# Altium footprint library Driver.PcbLib: 20 footprints (part 1 of 2)
Each footprint in its own frame and in the unit in brackets; x right, y up, seen from the top. Pads: shape width x height; smd on the part's side, far side on the other; paste and mask are expansions set on the pad; w line width, h text height; cw(c..) or ccw(c..) is an arc to the next point about the centre after c.
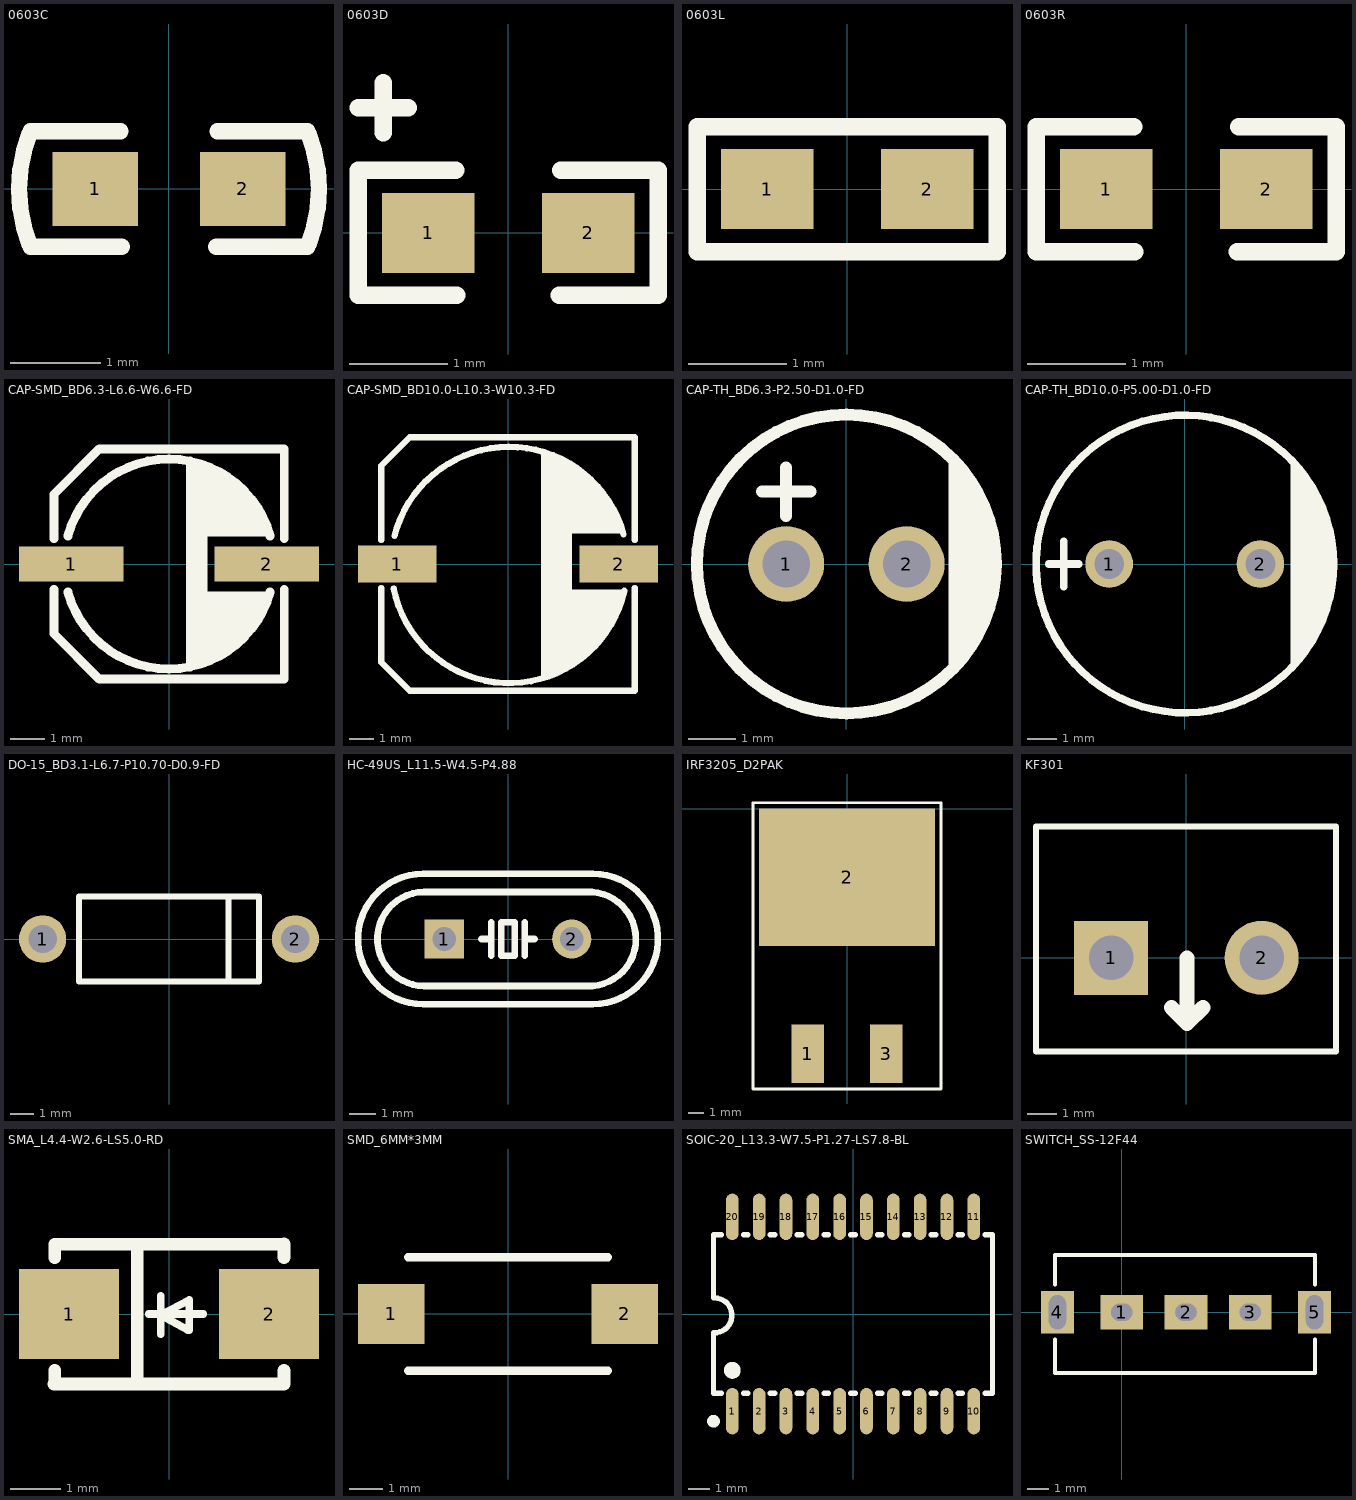
[diagram p0: the footprints below, top view; thin cyan lines are the x and y axes]

## 0603C [mil]
pads (2):
  rect 37x32 smd: 1(-32,0) 2(32,0)
Top Overlay:
  lines w7: -60.27,-24.35 cw(c0,0) -60.27,24.35 ; -60,-25 -20.5,-25 ; -60,25 -21,25 ; 20.5,-25 60,-25 ; 21,25 60,25 ; 60.27,-24.35 ccw(c0,0) 60.27,24.35
3D body: height 11.89, standoff 0, extent -31.49,-15.74 31.5,15.75

## 0603D [mil]
pads (2):
  rect 37x32 smd: 1(-32,0) 2(32,0)
Top Overlay:
  lines w7: -60,50 -40,50 ; -50,40 -50,60 ; -21,25 -60,25 -60,-25 -20.5,-25 ; 20.5,-25 60,-25 60,24 ; 21,25 60,25
3D body: height 11.89, standoff 0, extent -31.49,-15.74 31.5,15.75

## 0603L [mil]
pads (2):
  rect 37x32 smd: 1(-32,0) 2(32,0)
Top Overlay:
  lines w7: 60,24 60,-25 -60,-25 -60,25 60,25
3D body: height 11.89, standoff 0, extent -31.49,-15.74 31.5,15.75

## 0603R [mil]
pads (2):
  rect 37x32 smd: 1(-32,0) 2(32,0)
Top Overlay:
  lines w7: -21,25 -60,25 -60,-25 -20.5,-25 ; 20.5,-25 60,-25 60,24 ; 21,25 60,25
3D body: height 11.89, standoff 0, extent -31.49,-15.74 31.5,15.75

## CAP-SMD_BD6.3-L6.6-W6.6-FD [mm]
pads (2):
  rect 3x1 smd: 1(-2.8,0) 2(2.8,0)
Top Overlay:
  region: 0.5,-3 0.5,2.9 0.5,3 0.5,2.9 1.1,2.8 1.6,2.6 1.9,2.3 2.2,2.1 2.5,1.8 2.7,1.4 2.9,0.8 1.1,0.8 1.1,-0.8 2.9,-0.8 2.8,-1 2.7,-1.4 2.4,-1.7 2.2,-2.1 1.8,-2.4 1.4,-2.6 1,-2.8
  lines w0.254: -3.297,-0.732 -3.297,-1.999 -1.996,-3.299 3.302,-3.299 3.302,-0.732 ; -3.297,0.732 -3.297,1.999 -1.996,3.299 3.302,3.299 3.302,0.732 ; -2.9,-0.8 ccw(c0,0) 2.9,-0.8 ; -2.9,0.8 cw(c0,0) 2.9,0.8

## CAP-SMD_BD10.0-L10.3-W10.3-FD [mm]
pads (2):
  rect 3.2x1.5 smd: 1(-4.5,0) 2(4.5,0)
Top Overlay:
  region: 1.35,4.6 1.35,-4.65 1.8,-4.45 2.4,-4.2 2.9,-3.9 3.25,-3.55 3.55,-3.35 3.85,-2.95 4.2,-2.35 4.45,-1.95 4.6,-1.6 4.75,-1.05 2.6,-1.05 2.6,1.1 2.6,1.25 4.65,1.25 4.5,1.8 4.2,2.45 3.95,2.9 3.4,3.45 2.8,3.85 2.2,4.2 1.8,4.5 1.35,4.65
  lines w0.254: -5.15,-0.981 -5.15,-4 -4,-5.15 5.15,-5.15 5.15,-0.981 ; -5.15,0.981 -5.15,4 -4,5.15 5.15,5.15 5.15,0.981 ; -4.65,-1 ccw(c0.05,-0.05) 4.731,-1.09 ; -4.614,1.146 cw(c0.05,-0.05) 4.7,1.2

## CAP-TH_BD6.3-P2.50-D1.0-FD [mm]
pads (2):
  round 1.6 hole 1: 1(-1.27,0) 2(1.27,0)
Top Overlay:
  circle w0.254: c0,0 r3.15
  region: 2.159,2.286 2.319,2.142 2.595,1.812 2.822,1.447 2.997,1.054 3.115,0.641 3.175,0.215 3.175,-0.215 3.115,-0.641 2.997,-1.054 2.822,-1.447 2.595,-1.812 2.319,-2.142 2.159,-2.286
  lines w0.254: -1.778,1.524 -0.762,1.524 ; -1.27,1.016 -1.27,2.032

## CAP-TH_BD10.0-P5.00-D1.0-FD [mm]
pads (2):
  round 1.6 hole 1: 1(-2.54,0) 2(2.54,0)
Top Overlay:
  circle w0.254: c0,0 r4.999
  region: 3.556,3.556 3.556,-3.556 4.318,-2.54 4.826,-1.016 5.08,0.508 4.826,1.524
  lines w0.254: -4.572,0 -3.556,0 ; -4.064,-0.762 -4.064,0.762

## DO-15_BD3.1-L6.7-P10.70-D0.9-FD [mm]
pads (2):
  round 2 hole 1.2: 1(-5.35,0) 2(5.35,0)
Top Overlay:
  lines w0.254: 2.524,-1.8 2.524,1.8 ; -3.8,-1.8 -3.8,1.8 3.8,1.8 3.8,-1.8 -3.8,-1.8

## HC-49US_L11.5-W4.5-P4.88 [mm]
pads (2):
  rect 1.5x1.5 hole 0.9: 1(-2.438,0)
  round 1.5 hole 0.9: 2(2.438,0)
Top Overlay:
  lines w0.254: -3.251,2.499 ccw(c-3.243,0) -3.25,-2.5 3.25,-2.5 ; -3.25,2.5 3.25,2.5 cw(c3.243,0) 3.251,-2.499 ; -3.2,1.8 3.2,1.8 cw(c3.093,0) 3,-1.801 ; -3.2,1.801 ccw(c-3.2,0) -3.2,-1.8 3,-1.8 ; -1.016,0 -0.635,0 ; -0.635,-0.635 -0.635,0 ; -0.635,0.635 -0.635,0 ; 0.635,-0.635 0.635,0 ; 0.635,0.635 0.635,0 ; 1.016,0 0.635,0 ; -0.254,-0.635 0.254,-0.635 0.254,0.635 -0.254,0.635 -0.254,-0.635

## IRF3205_D2PAK [mil]
pads (3):
  rect 82x150 smd: 1(-100,-625) 3(100,-625)
  rect 450x350 smd: 2(0,-175)
Top Overlay:
  lines w7: -240,-715 -240,15 240,15 240,-715 -240,-715

## KF301 [mm]
pads (2):
  rect 2.5x2.5 hole 1.5: 1(-2.54,0)
  round 2.5 hole 1.5: 2(2.54,0)
Top Overlay:
  lines w0.203: -5.08,-3.16 5.055,-3.16 5.055,4.435 -5.08,4.435 -5.08,-3.16
  lines w0.508: -0.508,-1.676 0.025,-2.21 ; 0.025,0 0.025,-2.21 ; 0.559,-1.676 0.025,-2.21
3D body "F301-2.STEP": height 10.18, standoff -2.82, extent -4.975,-3.048 5.025,4.352

## SMA_L4.4-W2.6-LS5.0-RD [mm]
pads (2):
  rect 2x1.8 smd: 1(-2,0) 2(2,0)
Top Overlay:
  lines w0.152: -0.406,0 0.686,0 ; -0.166,-0.401 -0.166,-0.02 ; -0.166,0.361 -0.166,-0.02 ; 0.376,-0.321 -0.166,-0.02 ; 0.406,-0.321 0.406,0.279 -0.166,-0.02
  lines w0.254: -2.3,-1.4 2.3,-1.4 2.3,-1.131 ; -2.286,-1.4 -2.286,-1.131 ; -2.286,1.131 -2.286,1.397 2.3,1.397 ; -0.635,-1.4 -0.635,1.397 ; 2.3,1.131 2.3,1.4

## SMD_6MM*3MM [mm]
pads (2):
  rect 2x1.8 smd: 1(-3.5,0) 2(3.5,0)
Top Overlay:
  lines w0.254: -3,-1.7 3,-1.7 ; -3,1.7 3,1.7

## SOIC-20_L13.3-W7.5-P1.27-LS7.8-BL [mm]
pads (20):
  oval 0.6x2.198 smd: 1(-5.715,-4.6) 2(-4.445,-4.6) 3(-3.175,-4.6) 4(-1.905,-4.6) 5(-0.635,-4.6) 6(0.635,-4.6) 7(1.905,-4.6) 8(3.175,-4.6) 9(4.445,-4.6) 10(5.715,-4.6) 11(5.715,4.6) 12(4.445,4.6) 13(3.175,4.6) 14(1.905,4.6) 15(0.635,4.6) 16(-0.635,4.6) 17(-1.905,4.6) 18(-3.175,4.6) 19(-4.445,4.6) 20(-5.715,4.6)
Top Overlay:
  lines w0.254: -6.604,-0.889 -6.604,-3.749 -6.246,-3.749 ; -6.604,0.762 -6.604,3.749 -6.246,3.749 ; -6.573,-0.889 ccw(c-6.56,-0.064) -6.547,0.762 ; -5.184,-3.749 -4.976,-3.749 ; -5.184,3.749 -4.976,3.749 ; -3.914,-3.749 -3.706,-3.749 ; -3.914,3.749 -3.706,3.749 ; -2.644,-3.749 -2.436,-3.749 ; -2.644,3.749 -2.436,3.749 ; -1.374,-3.749 -1.166,-3.749 ; -1.374,3.749 -1.166,3.749 ; -0.104,-3.749 0.104,-3.749 ; -0.104,3.749 0.104,3.749 ; 1.166,-3.749 1.374,-3.749 ; 1.166,3.749 1.374,3.749 ; 2.436,-3.749 2.644,-3.749 ; 2.436,3.749 2.644,3.749 ; 3.706,-3.749 3.914,-3.749 ; 3.706,3.749 3.914,3.749 ; 4.976,-3.749 5.184,-3.749 ; 4.976,3.749 5.184,3.749 ; 6.246,-3.749 6.604,-3.749 6.604,3.749 6.246,3.749
  lines w0.3: -6.605,-4.93 ccw(c-6.604,-5.08) -6.603,-4.93
  lines w0.4: -5.716,-2.467 ccw(c-5.715,-2.667) -5.714,-2.467

## SWITCH_SS-12F44 [mm]
pads (5):
  rect 2x1.6 hole 0.8 slot 1 at 0 deg: 1(0,0) 2(3,0) 3(6,0)
  rect 1.524x2 hole 1.6 slot 0.8 at 0 deg: 4(-3,0) 5(9,0)
Top Overlay:
  lines w0.178: -3.116,-1.27 -3.116,-2.833 9.019,-2.833 9.019,-1.27 ; -3.116,1.292 -3.116,2.667 9.019,2.667 9.019,1.292